# Altium footprint library Cap_THD.PcbLib: 5 footprints
Each footprint in its own frame and in the unit in brackets; x right, y up, seen from the top. Pads: shape width x height; smd on the part's side, far side on the other; paste and mask are expansions set on the pad; w line width, h text height; cw(c..) or ccw(c..) is an arc to the next point about the centre after c.
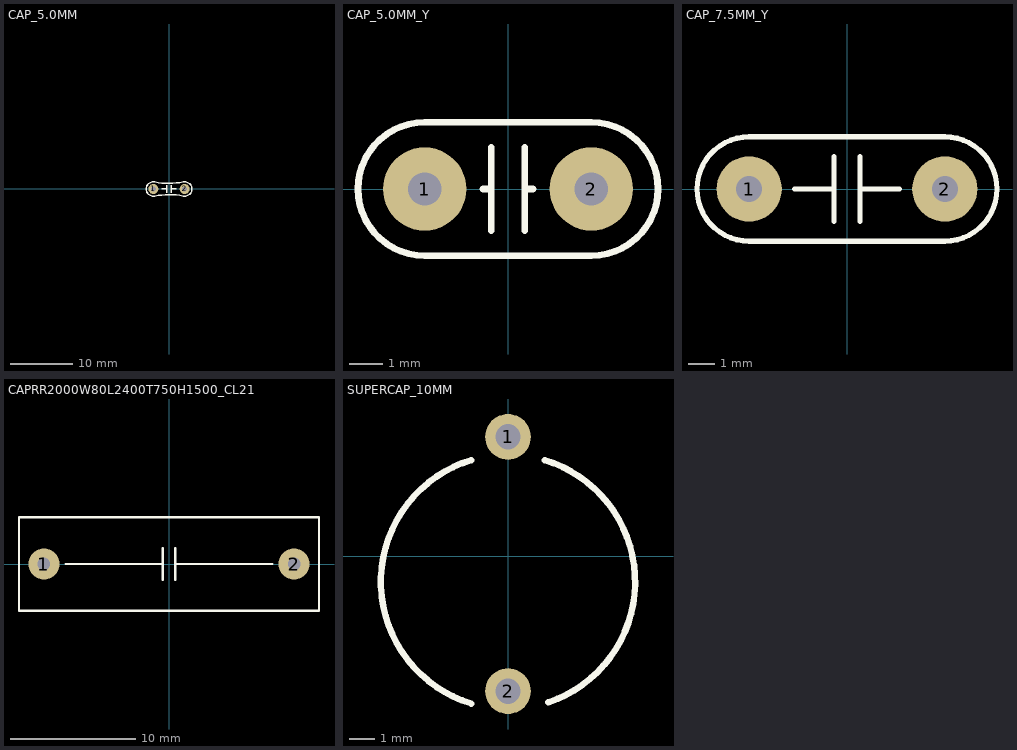
[diagram p0: the footprints below, top view; thin cyan lines are the x and y axes]

## CAP_5.0MM [mm]
pads (2):
  round 1.6 hole 0.8: 1(-2.5,0) 2(2.5,0)
Top Overlay:
  lines w0.2: -2.314,-1.148 cw(c-2.503,-0.014) -2.314,1.121 ; -2.26,-1.139 cw(c0.029,-12.434) 2.25,-1.125 ; -2.26,1.111 ccw(c-0.039,12.42) 2.25,1.125 ; -1.125,0 -0.375,0 ; -0.35,-0.625 -0.35,0.625 ; 0.375,-0.625 0.375,0.625 ; 0.375,0 1.125,0 ; 2.311,-1.134 ccw(c2.5,0) 2.311,1.134
3D body "User Library-Cap ceramic F=5mm.STEP": height 6.5, standoff -2.5, extent -2.8,-1.25 2.8,1.25

## CAP_5.0MM_Y [mm]
pads (2):
  round 2.5 hole 1: 1(-2.5,0) 2(2.5,0)
Top Overlay:
  lines w0.2: -0.75,0 -0.5,0 ; -0.5,-1.25 -0.5,1.25 ; 0.5,-1.25 0.5,1.25 ; 0.5,0 0.75,0 ; -2.5,-2 cw(c-2.5,0) -2.5,2 2.5,2 cw(c2.5,0) 2.5,-2 -2.5,-2
3D body "6MM_RADIAL.STEP": height 9, standoff -2.62, extent -3,-1.899 3,1.9

## CAP_7.5MM_Y [mm]
pads (2):
  round 2.5 hole 1: 1(-3.75,0) 2(3.75,0)
Top Overlay:
  lines w0.2: -2,0 -0.5,0 ; -0.5,-1.25 -0.5,1.25 ; 0.5,-1.25 0.5,1.25 ; 0.5,0 2,0 ; -3.75,-2 cw(c-3.75,0) -3.75,2 3.75,2 cw(c3.75,0) 3.75,-2 -3.75,-2
3D body "DEBB33A472KA3B.STEP": height 15.31, standoff -3.65, extent -6,-1.989 6,1.99

## CAPRR2000W80L2400T750H1500_CL21 [mm]
pads (2):
  round 2.5 hole 1: 1(-10,0) 2(10,0)
Top Overlay:
  lines w0.2: -8.25,0 -0.5,0 ; -0.5,-1.25 -0.5,1.25 ; 0.5,-1.25 0.5,1.25 ; 0.5,0 8.25,0 ; -12,-3.75 12,-3.75 12,3.75 -12,3.75 -12,-3.75
3D body "CAPRR2000W80L2400T750H1500_CL21.STEP": height 15.25, standoff -2.25, extent -12,-3.75 12,3.75

## SUPERCAP_10MM [mm]
pads (2):
  round 1.8 hole 1: 1(0,4.7) 2(0,-5.3)
Top Overlay:
  lines w0.254: -1.437,-5.789 cw(c0,-1) -1.437,3.789 ; 1.437,3.789 cw(c0,-1) 1.581,-5.743
3D body "EEC-S0HD224H.SLDPRT": height 6.01, standoff -2.09, extent -5.247,-6.073 5.247,5.427